# Altium integrated library APA102-2020_RGB.IntLib: 1 symbol
Pins are listed as number, name and electrical type; pins without a type are passive.

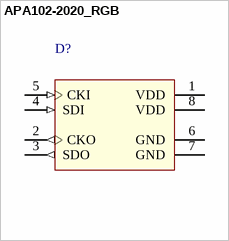
[diagram p0: symbol APA102-2020_RGB]

## APA102-2020_RGB
designator D?
ADDRESS LED DISCRETE SERIAL RGB / Manufacturer PN: 3341; MF: Adafruit Industries; MP: 3341; SnapEDA_Link: https://www.snapeda.com/parts/3341/Adafruit%20Industries%20LLC/view-part/?ref=snap; Price: None; Availability: Unavailable; Package: SOIC-16 Adafruit; Value: *
footprint *LED_3341
pins: 1 VDD (power), 2 CKO (out), 3 SDO (out), 4 SDI (in), 5 CKI (in), 6 GND (power), 7 GND (power), 8 VDD (power)